# Altium footprint library Devices.PcbLib: 10 footprints
Each footprint in its own frame and in the unit in brackets; x right, y up, seen from the top. Pads: shape width x height; smd on the part's side, far side on the other; paste and mask are expansions set on the pad; w line width, h text height; cw(c..) or ccw(c..) is an arc to the next point about the centre after c.
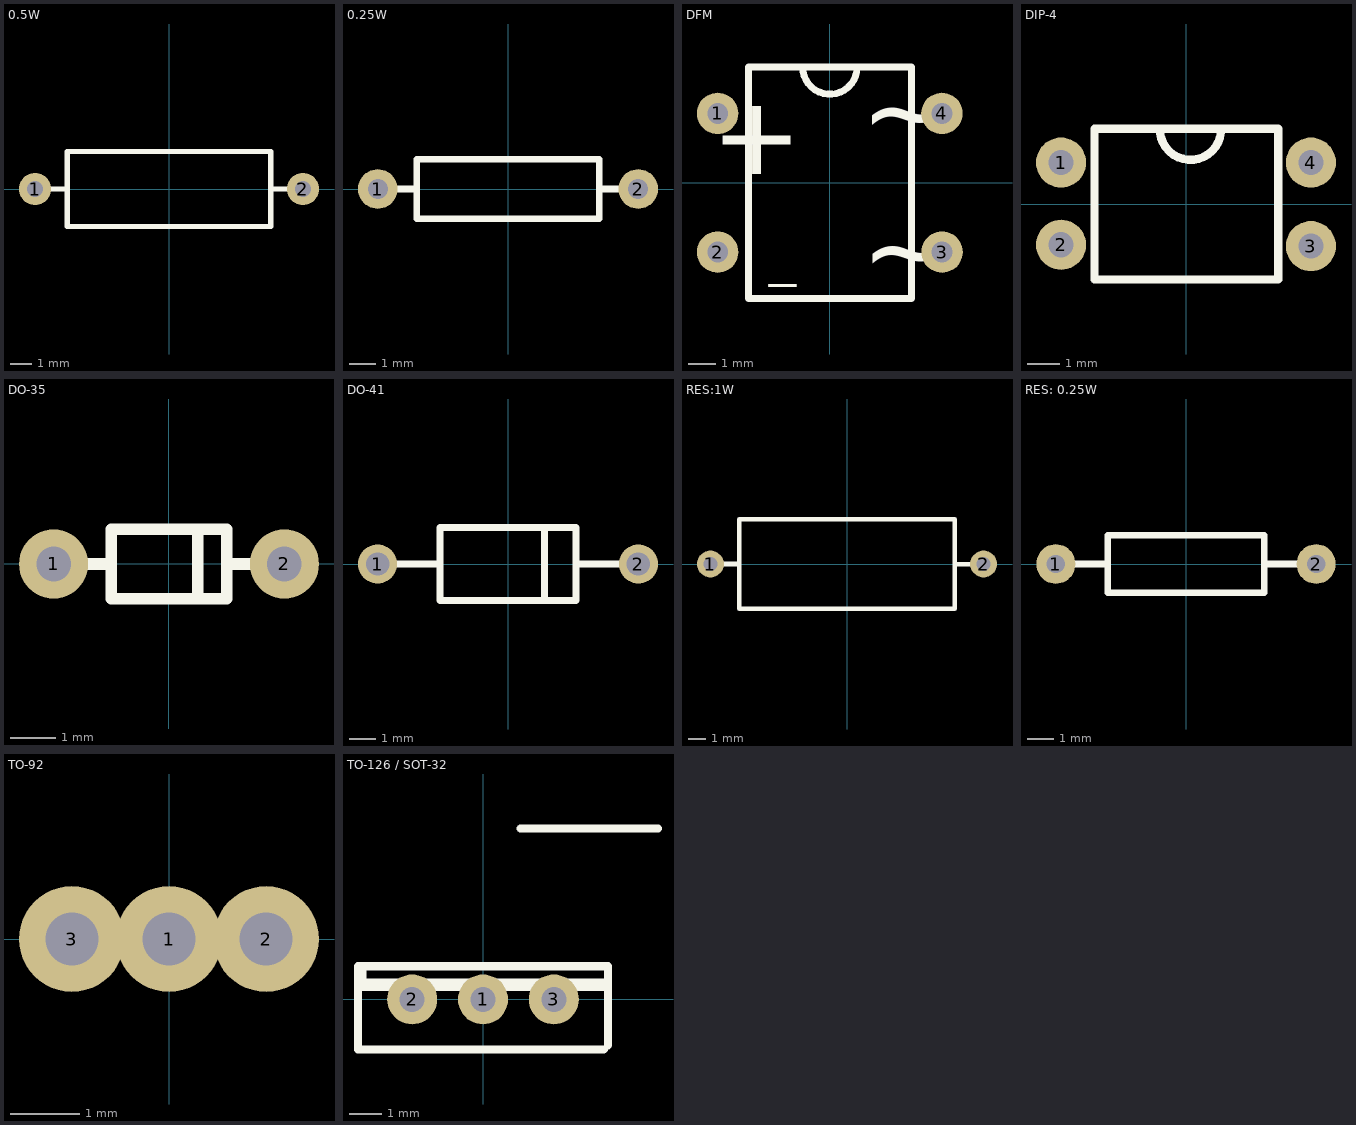
[diagram p0: the footprints below, top view; thin cyan lines are the x and y axes]

## 0.5W [mil]
pads (2):
  round 60 hole 30: 1(-250,0) 2(250,0)
Top Overlay:
  lines w10: -250,0 -190,0 ; 190,0 250,0 ; -190,-70 190,-70 190,70 -190,70 -190,-70
3D body "User Library-Res50-Axial 0_5W-680R.step": height 269.09, standoff -100, extent -264.76,-73.81 264.77,73.82

## 0.25W [mil]
pads (2):
  round 60 hole 30: 1(-196.85,0) 2(196.85,0)
Top Overlay:
  lines w10: -165,0 -140,0 ; 137.8,0 165,0 ; -137.8,-45 137.8,-45 137.8,45 -137.8,45 -137.8,-45
3D body "User Library-Res40-Axial Short 0_25W-1M.step": height 95, standoff -78.74, extent -211.8,-47.24 211.82,47.25

## DFM [mil]
pads (4):
  round 60 hole 30: 1(-162.5,100.39) 2(-162.5,-100.39) 3(162.5,-100.39) 4(162.3,100.39)
Top Overlay:
  lines w10: -39.37,167.53 ccw(c0,167.52) 39.37,167.53 ; -118.11,-167.52 118.11,-167.52 118.11,167.52 -118.11,167.52 -118.11,-167.52
  text "~" at 45,10 h196.85
  text "~" at 45.2,-190.79 h196.85
  text "-" at -40,-225 h196.85
  text "+" at -40,-25 h196.85
3D body "User Library-DFM_Bridge_Rectifier.step": height 167.32, standoff -124.02, extent -157.48,-167.52 157.48,167.52

## DIP-4 [mil]
pads (4):
  round 60 hole 30: 1(-149.61,50) 2(-149.61,-48.43) 3(149.61,-50) 4(149.61,50)
Top Overlay:
  lines w10: -31.06,85.69 ccw(c5.39,90) 41.93,86.5 ; -109.61,-90 110.39,-90 110.39,90.32 -109.61,90.32 -109.61,-90
3D body "User Library-DIP-4.step": height 169.29, standoff -118.11, extent -159.53,-90 150.32,90.32

## DO-35 [mil]
pads (2):
  round 60 hole 30: 1(-100,0) 2(100,0)
Top Overlay:
  lines w10: -100,0 -50,0 ; 25,-30 25,30 ; 50,0 100,0 ; -50,-30 -50,30 50,30 50,-30 -50,-30
3D body "User Library-1N4148 x5mm.step": height 68.9, standoff -92.52, extent -108.27,-29.52 108.27,29.53

## DO-41 [mm]
pads (2):
  round 1.5 hole 0.9: 1(-5,0) 2(5,0)
Top Overlay:
  lines w0.254: -5,0 -2.622,0 ; -2.605,1.363 -2.605,-1.397 2.605,-1.397 ; -2.605,1.397 2.605,1.397 2.605,-1.363 ; 1.397,-1.397 1.397,1.397 ; 2.622,0 5,0
3D body "User Library-DO-41 10mm.STEP": height 4.36, standoff -1, extent -5.477,-1.362 5.383,1.363

## RES:1W [mm]
pads (2):
  round 1.5 hole 0.8: 1(-7.62,0) 2(7.62,0)
Top Overlay:
  lines w0.254: -7.62,0 -6,0 ; 6.127,-0.003 7.62,-0.003 ; -6,-2.5 6,-2.5 6,2.5 -6,2.5 -6,-2.5
3D body "User Library-RES-1W.STEP": height 5, standoff -3, extent -7.97,-2.503 7.97,2.497

## RES: 0.25W [mm]
pads (2):
  oval 1.5x1.524 hole 0.7: 1(-5,0) 2(5,0)
Top Overlay:
  lines w0.254: -5,0 -2.999,0 ; -3,-1.1 3,-1.1 ; -3,1.1 3,1.1 ; -2.999,-1.1 -2.999,1.1 ; 3.001,-1.1 3.001,1.1 ; 3.001,0 5,0
3D body "User Library-AXIAL_RESISTOR(0_25W).step": height 2.6, standoff -1.5, extent -5.395,-1.2 5.405,1.2

## TO-92 [mil]
pads (3):
  round 60 hole 30: 1(0,0) 2(55.12,0) 3(-55.12,0)
3D body "ALSRobot-TO-92A.step": height 314.96, standoff -118.11, extent -94.49,-60.23 94.49,94.49

## TO-126 / SOT-32 [mil]
pads (3):
  round 60 hole 30: 1(0,0) 2(-85,0) 3(85,0)
Top Overlay:
  lines w10: -150,15 145,15 ; -145,35 -145,20 150,20 ; 85,205 45,205 210,205 ; 145,-60 -150,-60 -150,40 150,40 150,-55
3D body "User Library-TO-126 (SOT32) Gold PCB.step": height 519.29, standoff -139.37, extent -149.59,-61.02 149.61,39.38